# EAGLE library part DIP36_OPEN (library Adapter_DIP36)
1x16 .1" header
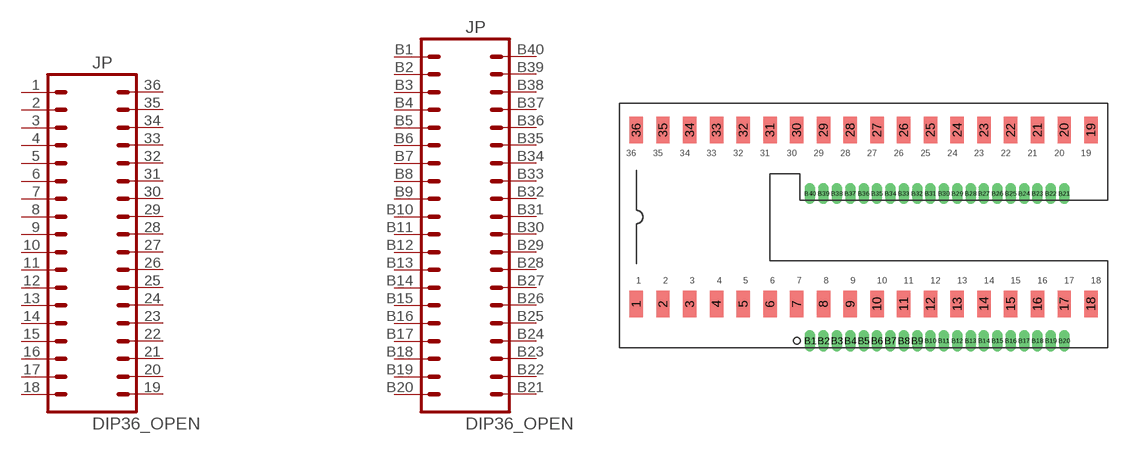
[diagram p1: symbol with the pads of DIP36_OPEN; footprint DIP36_OPEN]

Designator prefix JP

## DIP36_OPENPTH  [DIP36_OPEN]
1  1  pas
2  2  pas
3  3  pas
4  4  pas
5  5  pas
6  6  pas
7  7  pas
8  8  pas
9  9  pas
10  10  pas
11  11  pas
12  12  pas
13  13  pas
14  14  pas
15  15  pas
16  16  pas
17  17  pas
18  18  pas
19  19  pas
20  20  pas
21  21  pas
22  22  pas
23  23  pas
24  24  pas
25  25  pas
26  26  pas
27  27  pas
28  28  pas
29  29  pas
30  30  pas
31  31  pas
32  32  pas
33  33  pas
34  34  pas
35  35  pas
36  36  pas
B1  B1  pas
B2  B2  pas
B3  B3  pas
B4  B4  pas
B5  B5  pas
B6  B6  pas
B7  B7  pas
B8  B8  pas
B9  B9  pas
B10  B10  pas
B11  B11  pas
B12  B12  pas
B13  B13  pas
B14  B14  pas
B15  B15  pas
B16  B16  pas
B17  B17  pas
B18  B18  pas
B19  B19  pas
B20  B20  pas
B21  B21  pas
B22  B22  pas
B23  B23  pas
B24  B24  pas
B25  B25  pas
B26  B26  pas
B27  B27  pas
B28  B28  pas
B29  B29  pas
B30  B30  pas
B31  B31  pas
B32  B32  pas
B33  B33  pas
B34  B34  pas
B35  B35  pas
B36  B36  pas
B37  B37  pas
B38  B38  pas
B39  B39  pas
B40  B40  pas

## Footprint DIP36_OPEN (pad centres in mm)
smd 1.27 x 2.54: 1 1.587,4.128; 2 4.128,4.128; 3 6.668,4.128; 4 9.207,4.128; 5 11.748,4.128; 6 14.287,4.128; 7 16.828,4.128; 8 19.367,4.128; 9 21.907,4.128; 10 24.448,4.128; 11 26.988,4.128; 12 29.527,4.128; 13 32.068,4.128; 14 34.608,4.128; 15 37.148,4.128; 16 39.688,4.128; 17 42.227,4.128; 18 44.767,4.128; 19 44.767,20.637; 20 42.227,20.637; 21 39.688,20.637; 22 37.148,20.637; 23 34.608,20.637; 24 32.068,20.637; 25 29.527,20.637; 26 26.988,20.637; 27 24.448,20.637; 28 21.907,20.637; 29 19.367,20.637; 30 16.828,20.637; 31 14.287,20.637; 32 11.748,20.637; 33 9.207,20.637; 34 6.668,20.637; 35 4.128,20.637; 36 1.587,20.637
drill 0.5 pad 0.813 long: B1 18.098,0.635; B2 19.367,0.635; B3 20.637,0.635; B4 21.907,0.635; B5 23.177,0.635; B6 24.448,0.635; B7 25.718,0.635; B8 26.988,0.635; B9 28.258,0.635; B10 29.527,0.635; B11 30.797,0.635; B12 32.068,0.635; B13 33.337,0.635; B14 34.608,0.635; B15 35.877,0.635; B16 37.148,0.635; B17 38.417,0.635; B18 39.688,0.635; B19 40.958,0.635; B20 42.227,0.635; B21 42.227,14.605; B22 40.958,14.605; B23 39.688,14.605; B24 38.417,14.605; B25 37.148,14.605; B26 35.877,14.605; B27 34.608,14.605; B28 33.337,14.605; B29 32.068,14.605; B30 30.797,14.605; B31 29.527,14.605; B32 28.258,14.605; B33 26.988,14.605; B34 25.718,14.605; B35 24.448,14.605; B36 23.177,14.605; B37 21.907,14.605; B38 20.637,14.605; B39 19.367,14.605; B40 18.098,14.605